# Altium footprint library IS25LP016D.PcbLib: 1 footprints
Each footprint in its own frame and in the unit in brackets; x right, y up, seen from the top. Pads: shape width x height; smd on the part's side, far side on the other; paste and mask are expansions set on the pad; w line width, h text height; cw(c..) or ccw(c..) is an arc to the next point about the centre after c.
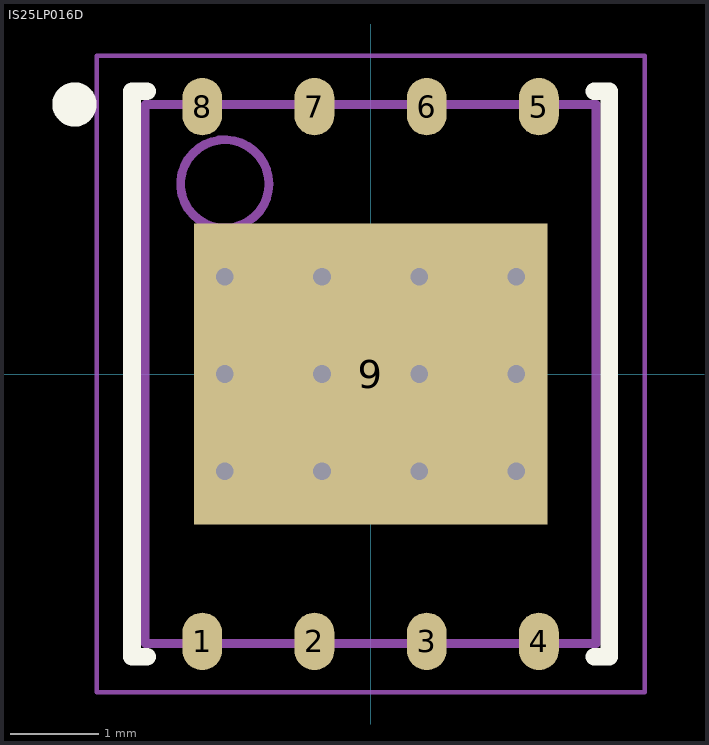
[diagram p0: the footprint, top view; thin cyan lines are the x and y axes]

## IS25LP016D [mm]
height 0.8
pads (9):
  oval 0.45x0.65 smd: 1(-1.905,-3.025) 2(-0.635,-3.025) 3(0.635,-3.025) 4(1.905,-3.025) 5(1.905,3.025) 6(0.635,3.025) 7(-0.635,3.025) 8(-1.905,3.025)
  rect 4x3.4 smd: 9(0,0)
via 1.65,-1.1 diameter 0.5 hole 0.2
via 0.55,-1.1 diameter 0.5 hole 0.2
via -0.55,-1.1 diameter 0.5 hole 0.2
via -1.65,-1.1 diameter 0.5 hole 0.2
via 1.65,0 diameter 0.5 hole 0.2
via 0.55,0 diameter 0.5 hole 0.2
via -0.55,0 diameter 0.5 hole 0.2
via -1.65,0 diameter 0.5 hole 0.2
via 1.65,1.1 diameter 0.5 hole 0.2
via 0.55,1.1 diameter 0.5 hole 0.2
via -0.55,1.1 diameter 0.5 hole 0.2
via -1.65,1.1 diameter 0.5 hole 0.2
Top Overlay:
  circle w0.25: c-3.35,3.05 r0.125
  lines w0.2: -2.7,-0.01 -2.7,3.2 -2.53,3.2 ; -2.7,0.01 -2.7,-3.2 -2.53,-3.2 ; 2.53,-3.2 2.7,-3.2 2.7,0.01 ; 2.53,3.2 2.7,3.2 2.7,-0.01
Mechanical 13:
  circle w0.1: c-1.65,2.15 r0.5
  lines w0.1: -2.55,-3.05 2.55,-3.05 2.55,3.05 -2.55,3.05 -2.55,-3.05
Mechanical 15:
  lines w0.05: -3.1,-3.6 3.1,-3.6 3.1,3.6 -3.1,3.6 -3.1,-3.6
  lines w0.1: -0.5,0 0.5,0 ; 0,-0.5 0,0.5
3D body "IS25LP016D.step": height 0.8, standoff 0, extent -2.55,-3.051 2.55,3.051